# EAGLE library part ESP32-S2-WROOM (library esp32-s2-wroom)
ESP32-S2-WROOM - trace antenna (includes keepout)
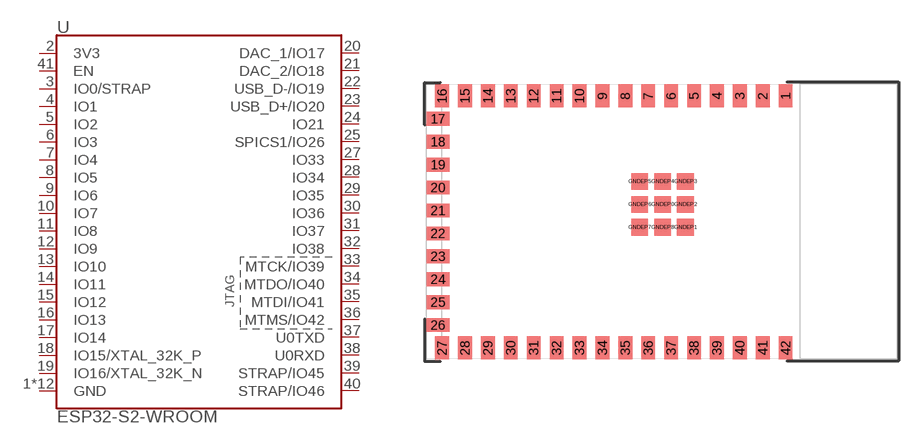
[diagram p0: symbol with the pads of ESP32-S2-WROOM; footprint ESP32-S2-WROOM]

Designator prefix U

## ESP32-S2-WROOM (PROD_ID: IC-15599)  [ESP32-S2-WROOM]
1  GND
2  3V3
3  IO0/STRAP
4  IO1
5  IO2
6  IO3
7  IO4
8  IO5
9  IO6
10  IO7
11  IO8
12  IO9
13  IO10
14  IO11
15  IO12
16  IO13
17  IO14
18  IO15/XTAL_32K_P
19  IO16/XTAL_32K_N
20  DAC_1/IO17
21  DAC_2/IO18
22  USB_D-/IO19
23  USB_D+/IO20
24  IO21
25  SPICS1/IO26
26  GND
27  IO33
28  IO34
29  IO35
30  IO36
31  IO37
32  IO38
33  MTCK/IO39
34  MTDO/IO40
35  MTDI/IO41
36  MTMS/IO42
37  U0TXD
38  U0RXD
39  STRAP/IO45
40  STRAP/IO46
41  EN
42  GND
GNDEP0  GND
GNDEP1  GND
GNDEP2  GND
GNDEP3  GND
GNDEP4  GND
GNDEP5  GND
GNDEP6  GND
GNDEP7  GND
GNDEP8  GND

## Footprint ESP32-S2-WROOM (pad centres in mm)
ESP-WROOM-32D This version of the module contains an onboard trace-antenna connector. It is virtually identical to the onboard u.FL version (ESP32-WROOM-32U), except it is slightly longer and requires the keepout zone.
smd 0.9 x 1.5: 1 11.94,8.25; 2 10.44,8.25; 3 8.94,8.25; 4 7.44,8.25; 5 5.94,8.25; 6 4.44,8.25; 7 2.94,8.25; 8 1.44,8.25; 9 -0.06,8.25; 10 -1.56,8.25; 11 -3.06,8.25; 12 -4.56,8.25; 13 -6.06,8.25; 14 -7.56,8.25; 15 -9.06,8.25; 16 -10.56,8.25; 27 -10.56,-8.24; 28 -9.06,-8.24; 29 -7.56,-8.24; 30 -6.06,-8.24; 31 -4.56,-8.24; 32 -3.06,-8.24; 33 -1.56,-8.24; 34 -0.06,-8.24; 35 1.44,-8.24; 36 2.94,-8.24; 37 4.44,-8.24; 38 5.94,-8.24; 39 7.44,-8.24; 40 8.94,-8.24; 41 10.44,-8.24; 42 11.94,-8.24
smd 1.5 x 0.9: 17 -10.82,6.75; 18 -10.82,5.25; 19 -10.82,3.75; 20 -10.82,2.25; 21 -10.82,0.75; 22 -10.82,-0.75; 23 -10.82,-2.25; 24 -10.82,-3.75; 25 -10.82,-5.25; 26 -10.82,-6.75
smd 1.1 x 1.1: GNDEP0 3.88,1.15; GNDEP1 5.38,-0.35; GNDEP2 5.38,1.15; GNDEP3 5.38,2.65; GNDEP4 3.88,2.65; GNDEP5 2.38,2.65; GNDEP6 2.38,1.15; GNDEP7 2.38,-0.35; GNDEP8 3.88,-0.35